# Altium integrated library ST RF and IF Radio Receiver Circuit.IntLib: 10 symbols
Pins are listed as number, name and electrical type; pins without a type are passive.

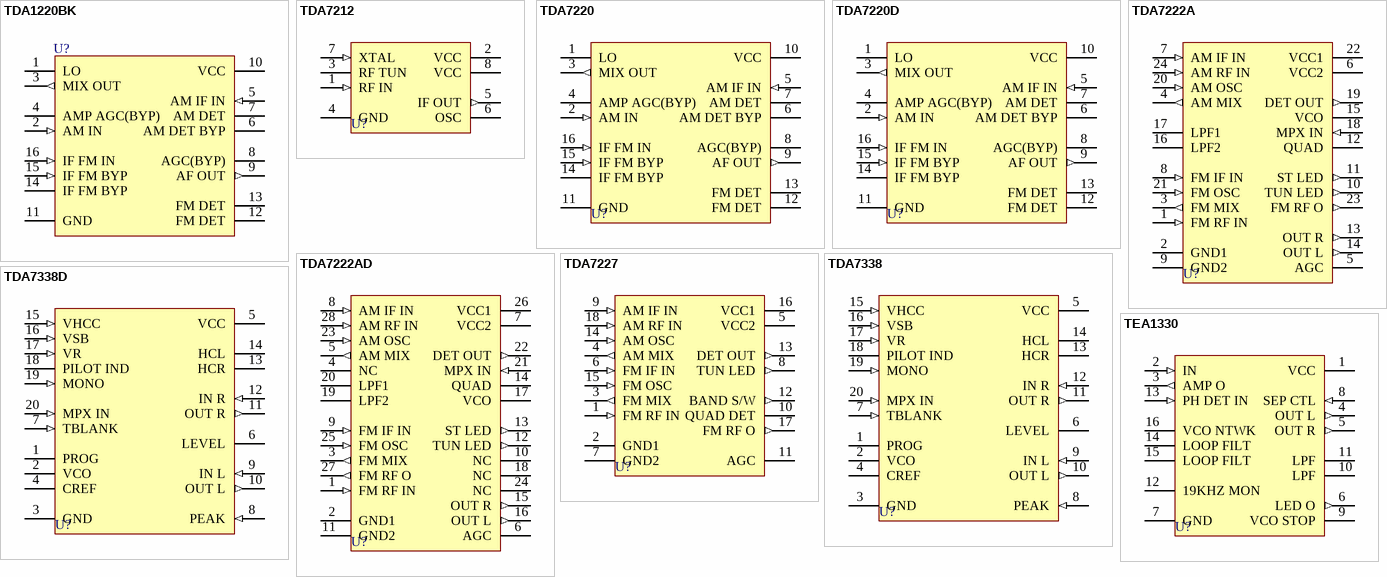
[diagram p0: symbols TDA1220BK to TEA1330]

## TDA1220BK
designator U?
AM-FM Quality Radio; Published: 24-Aug-2001; LatestRevisionDate: 6-Jun-2005; LatestRevisionNote: Stylized 3D Model Added.; DatasheetDocument: Mar-1993; PackageDocument: Apr-1996; PackageReference: DIP16; Publisher: Altium Limited; ComponentLink1Description: Manufacturer Link; ComponentLink1URL: http://www.st.com/
footprint DIP16 (DIP; 16 Leads; Row Spacing 7.62 mm; Pitch 2.54 mm)
3D model DIP16 (DIP; 16 Leads; Row Spacing 7.62 mm; Pitch 2.54 mm)
pins: 1 LO, 2 AM IN (in), 3 MIX OUT (out), 4 AMP AGC(BYP), 5 AM IF IN (in), 6 AM DET BYP, 7 AM DET, 8 AGC(BYP), 9 AF OUT (out), 10 VCC (power), 11 GND (power), 12 FM DET, 13 FM DET, 14 IF FM BYP, 15 IF FM BYP (in), 16 IF FM IN (in)

## TDA7212
designator U?
Low Voltage FM XTAL Controlled Front-End; Published: 24-Aug-2001; LatestRevisionDate: 6-Jun-2005; LatestRevisionNote: Stylized 3D Model Added.; DatasheetDocument: Aug-1992; PackageReference: DIP8; Publisher: Altium Limited; Code_JEDEC: MO-001-AN; ComponentLink1Description: Manufacturer Link; ComponentLink1URL: http://www.st.com/
footprint DIP8 (DIP; 8 Leads; Row Spacing 7.62 mm; Pitch 2.54 mm)
3D model DIP8 (DIP; 8 Leads; Row Spacing 7.62 mm; Pitch 2.54 mm)
pins: 1 RF IN (in), 2 VCC (power), 3 RF TUN, 4 GND (power), 5 IF OUT (out), 6 OSC, 7 XTAL (in), 8 VCC (power)

## TDA7220
designator U?
Very Low Voltage AM-FM Radio; Published: 24-Aug-2001; LatestRevisionDate: 6-Jun-2005; LatestRevisionNote: Stylized 3D Model Added.; DatasheetDocument: Jun-1993; PackageDocument: Apr-1996; PackageReference: DIP16; Publisher: Altium Limited; ComponentLink1Description: Manufacturer Link; ComponentLink1URL: http://www.st.com/
footprint DIP16 (DIP; 16 Leads; Row Spacing 7.62 mm; Pitch 2.54 mm)
3D model DIP16 (DIP; 16 Leads; Row Spacing 7.62 mm; Pitch 2.54 mm)
pins: 1 LO, 2 AM IN (in), 3 MIX OUT (out), 4 AMP AGC(BYP), 5 AM IF IN (in), 6 AM DET BYP, 7 AM DET, 8 AGC(BYP), 9 AF OUT (out), 10 VCC (power), 11 GND (power), 12 FM DET, 13 FM DET, 14 IF FM BYP, 15 IF FM BYP (in), 16 IF FM IN (in)

## TDA7220D
designator U?
Very Low Voltage AM-FM Radio; Published: 24-Aug-2001; LatestRevisionDate: 6-Jun-2005; LatestRevisionNote: Stylized 3D Model Added.; DatasheetDocument: Jun-1993; PackageDocument: May-1998; PackageReference: SO16; Publisher: Altium Limited; ComponentLink1Description: Manufacturer Link; ComponentLink1URL: http://www.st.com/
footprint SO16 (Small Outline; 16 Leads; Body Width 3.9 mm; Pitch 1.27 mm)
3D model SO16 (Small Outline; 16 Leads; Body Width 3.9 mm; Pitch 1.27 mm)
pins: 1 LO, 2 AM IN (in), 3 MIX OUT (out), 4 AMP AGC(BYP), 5 AM IF IN (in), 6 AM DET BYP, 7 AM DET, 8 AGC(BYP), 9 AF OUT (out), 10 VCC (power), 11 GND (power), 12 FM DET, 13 FM DET, 14 IF FM BYP, 15 IF FM BYP (in), 16 IF FM IN (in)

## TDA7222A
designator U?
3V AM/FM One-Chip Radio; Published: 24-Aug-2001; LatestRevisionDate: 6-Jun-2005; LatestRevisionNote: Stylized 3D Model Added.; DatasheetDocument: Feb-1995; PackageDocument: Nov-1999; PackageReference: PSDIP24; Publisher: Altium Limited; ComponentLink1Description: Manufacturer Link; ComponentLink1URL: http://www.st.com/
footprint PSDIP24 (DIP; 24 Leads; Row Spacing 7.62 mm; Pitch 1.778 mm)
3D model PSDIP24 (DIP; 24 Leads; Row Spacing 7.62 mm; Pitch 1.778 mm)
pins: 1 FM RF IN (in), 2 GND1 (power), 3 FM MIX (out), 4 AM MIX (out), 5 AGC, 6 VCC2 (power), 7 AM IF IN (in), 8 FM IF IN (in), 9 GND2 (power), 10 TUN LED (out), 11 ST LED (out), 12 QUAD, 13 OUT R (out), 14 OUT L (out), 15 VCO, 16 LPF2, 17 LPF1, 18 MPX IN (in), 19 DET OUT (out), 20 AM OSC (in), 21 FM OSC (in), 22 VCC1 (power), 23 FM RF O (out), 24 AM RF IN (in)

## TDA7222AD
designator U?
3V AM/FM One-Chip Radio; Published: 24-Aug-2001; LatestRevisionDate: 6-Jun-2005; LatestRevisionNote: Stylized 3D Model Added.; DatasheetDocument: Feb-1995; PackageDocument: Jul-2001; PackageReference: SO28; Publisher: Altium Limited; Code_IPC: SO28W; ComponentLink1Description: Manufacturer Link; ComponentLink1URL: http://www.st.com/
footprint SO28 (Small Outline, Plastic; 28 Leads; Body Width 7.5 mm; Pitch 1.27 mm)
3D model SO28 (Small Outline, Plastic; 28 Leads; Body Width 7.5 mm; Pitch 1.27 mm)
pins: 1 FM RF IN (in), 2 GND1 (power), 3 FM MIX (out), 4 NC, 5 AM MIX (out), 6 AGC, 7 VCC2 (power), 8 AM IF IN (in), 9 FM IF IN (in), 10 NC, 11 GND2 (power), 12 TUN LED (out), 13 ST LED (out), 14 QUAD, 15 OUT R (out), 16 OUT L (out), 17 VCO, 18 NC, 19 LPF2, 20 LPF1, 21 MPX IN (in), 22 DET OUT (out), 23 AM OSC (in), 24 NC, 25 FM OSC (in), 26 VCC1 (power), 27 FM RF O (out), 28 AM RF IN (in)

## TDA7227
designator U?
Single-Chip AM/FM Radio with Front-End; Published: 24-Aug-2001; LatestRevisionDate: 6-Jun-2005; LatestRevisionNote: Stylized 3D Model Added.; DatasheetDocument: Dec-1992; PackageReference: DIP18; Publisher: Altium Limited; ComponentLink1Description: Manufacturer Link; ComponentLink1URL: http://www.st.com/
footprint DIP18 (DIP; 18 Leads; Row Spacing 7.62 mm; Pitch 2.54 mm)
3D model DIP18 (DIP; 18 Leads; Row Spacing 7.62 mm; Pitch 2.54 mm)
pins: 1 FM RF IN (in), 2 GND1 (power), 3 FM MIX (out), 4 AM MIX (out), 5 VCC2 (power), 6 FM IF IN (in), 7 GND2 (power), 8 TUN LED (out), 9 AM IF IN (in), 10 QUAD DET, 11 AGC, 12 BAND S/W (out), 13 DET OUT (out), 14 AM OSC (in), 15 FM OSC (in), 16 VCC1 (power), 17 FM RF O (out), 18 AM RF IN (in)

## TDA7338
designator U?
Stereo Decoder; Published: 24-Aug-2001; LatestRevisionDate: 6-Jun-2005; LatestRevisionNote: Stylized 3D Model Added.; DatasheetDocument: Dec-1996; PackageDocument: Jun-1998; PackageReference: DIP20; Publisher: Altium Limited; Code_JEDEC: MS-015-AE; ComponentLink1Description: Manufacturer Link; ComponentLink1URL: http://www.st.com/; ComponentLink2Description: Datasheet; ComponentLink2URL: http://www.st.com/stonline/products/literature/ds/1556/tda7338.pdf
footprint DIP20 (DIP; 20 Leads; Row Spacing 7.62 mm; Pitch 2.54 mm)
3D model DIP20 (DIP; 20 Leads; Row Spacing 7.62 mm; Pitch 2.54 mm)
pins: 1 PROG, 2 VCO, 3 GND (power), 4 CREF, 5 VCC (power), 6 LEVEL, 7 TBLANK (in), 8 PEAK (in), 9 IN L (in), 10 OUT L (out), 11 OUT R (out), 12 IN R (in), 13 HCR, 14 HCL, 15 VHCC (in), 16 VSB (in), 17 VR (in), 18 PILOT IND, 19 MONO (in), 20 MPX IN (in)

## TDA7338D
designator U?
Stereo Decoder; Published: 24-Aug-2001; LatestRevisionDate: 6-Jun-2005; LatestRevisionNote: Stylized 3D Model Added.; DatasheetDocument: Dec-1996; PackageDocument: Jul-2001; PackageReference: SO20; Publisher: Altium Limited; Code_JEDEC: MS-013-AC; Code_IPC: SO20W; ComponentLink1Description: Manufacturer Link; ComponentLink1URL: http://www.st.com/; ComponentLink2Description: Datasheet; ComponentLink2URL: http://www.st.com/stonline/products/literature/ds/1556/tda7338.pdf
footprint SO20 (Small Outline, Plastic; 20 Leads; Body Width 7.5 mm; Pitch 1.27 mm)
3D model SO20 (Small Outline, Plastic; 20 Leads; Body Width 7.5 mm; Pitch 1.27 mm)
pins: 1 PROG, 2 VCO, 3 GND (power), 4 CREF, 5 VCC (power), 6 LEVEL, 7 TBLANK (in), 8 PEAK (in), 9 IN L (in), 10 OUT L (out), 11 OUT R (out), 12 IN R (in), 13 HCR, 14 HCL, 15 VHCC (in), 16 VSB (in), 17 VR (in), 18 PILOT IND, 19 MONO (in), 20 MPX IN (in)

## TEA1330
designator U?
FM Stereo Decoder; Published: 24-Aug-2001; LatestRevisionDate: 6-Jun-2005; LatestRevisionNote: Stylized 3D Model Added.; DatasheetDocument: Jun-1993; PackageDocument: Apr-1996; PackageReference: DIP16; Publisher: Altium Limited; ComponentLink1Description: Manufacturer Link; ComponentLink1URL: http://www.st.com/
footprint DIP16 (DIP; 16 Leads; Row Spacing 7.62 mm; Pitch 2.54 mm)
3D model DIP16 (DIP; 16 Leads; Row Spacing 7.62 mm; Pitch 2.54 mm)
pins: 1 VCC (power), 2 IN (in), 3 AMP O (out), 4 OUT L (out), 5 OUT R (out), 6 LED O (out), 7 GND (power), 8 SEP CTL (in), 9 VCO STOP, 10 LPF, 11 LPF, 12 19KHZ MON, 13 PH DET IN (in), 14 LOOP FILT, 15 LOOP FILT, 16 VCO NTWK